# EAGLE library part P-07005_AQM1248A (library Akizuki)
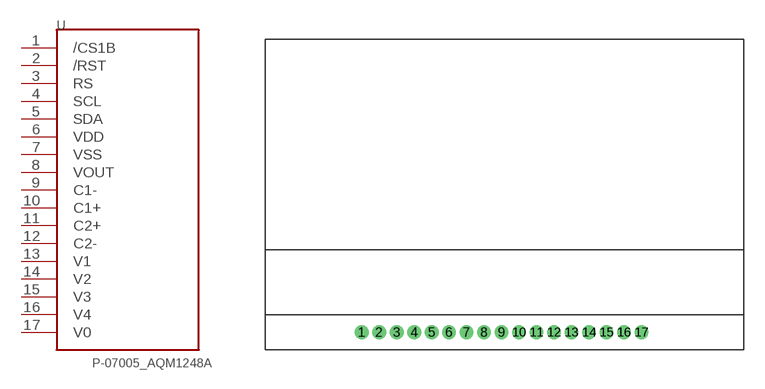
[diagram p27: symbol with the pads of AQM1248; footprint AQM1248]

Designator prefix U

## P-07005_AQM1248A  [AQM1248]
1  /CS1B
2  /RST
3  RS
4  SCL
5  SDA
6  VDD
7  VSS
8  VOUT
9  C1-
10  C1+
11  C2+
12  C2-
13  V1
14  V2
15  V3
16  V4
17  V0

## Footprint AQM1248 (pad centres in mm)
drill 0.5: 1 0,0; 2 1.27,0; 3 2.54,0; 4 3.81,0; 5 5.08,0; 6 6.35,0; 7 7.62,0; 8 8.89,0; 9 10.16,0; 10 11.43,0; 11 12.7,0; 12 13.97,0; 13 15.24,0; 14 16.51,0; 15 17.78,0; 16 19.05,0; 17 20.32,0